# Altium schematic symbol library SCH - POWER - LINEAR VREG - TI TPS73001DBV.SchLib: 1 symbol
Pins are listed as number, name and electrical type; pins without a type are passive.

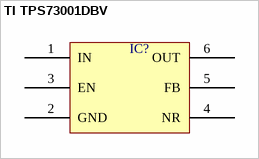
[diagram p0: symbol TI TPS73001DBV]

## TI TPS73001DBV
designator IC?  (value not drawn)
pins: 1 IN, 2 GND, 3 EN, 4 NR, 5 FB, 6 OUT